# EAGLE library part 5035481220 (library CONN-5035481220)
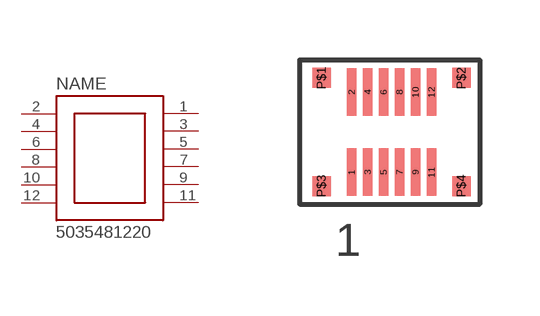
[diagram p0: symbol with the pads of 5035481220; footprint 5035481220]

Designator prefix -

## 5035481220  [5035481220]
1  1
2  2
3  3
4  4
5  5
6  6
7  7
8  8
9  9
10  10
11  11
12  12

## Footprint 5035481220 (pad centres in mm)
smd 0.24 x 1.18: 1 -1,-1; 2 -1,1; 3 -0.6,-1; 4 -0.6,1; 5 -0.2,-1; 6 -0.2,1; 7 0.2,-1; 8 0.2,1; 9 0.6,-1; 10 0.6,1; 11 1,-1; 12 1,1
smd 0.47 x 0.5: P$1 -1.75,1.35; P$2 1.75,1.35; P$3 -1.75,-1.35; P$4 1.75,-1.35